# Altium footprint library Ceramic Capacitors 0402 6.3V.PcbLib: 2 footprints
Each footprint in its own frame and in the unit in brackets; x right, y up, seen from the top. Pads: shape width x height; smd on the part's side, far side on the other; paste and mask are expansions set on the pad; w line width, h text height; cw(c..) or ccw(c..) is an arc to the next point about the centre after c.
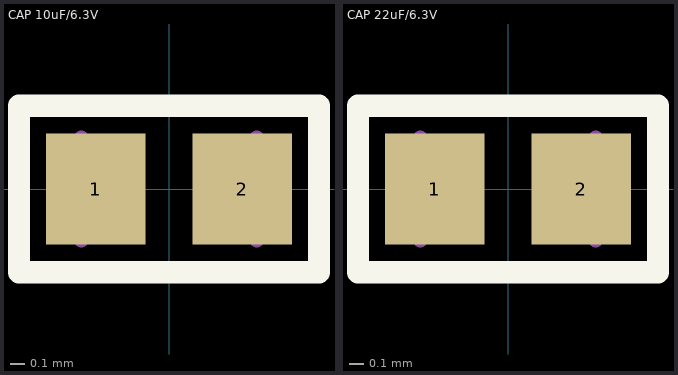
[diagram p0: the footprints below, top view; thin cyan lines are the x and y axes]

## CAP 10uF/6.3V [mm] "10µF ±20% 6.3V Ceramic Capacitor X5R 0402 (1005 Metric)"
height 0.63
pads (2):
  rect 0.68x0.76 smd: 1(-0.5,0) 2(0.5,0)
Top Overlay:
  lines w0.152: -1.026,-0.57 -1.026,0.57 1.026,0.57 1.026,-0.57 -1.026,-0.57
Mechanical 13:
  lines w0.1: -0.6,-0.35 -0.6,0.35 ; 0.6,-0.35 0.6,0.35
3D body "Capacitor SMD 0402.step": height 0.51, standoff 0.01, extent -0.5,-0.25 0.5,0.25

## CAP 22uF/6.3V [mm] "22µF ±20% 6.3V Ceramic Capacitor X5R 0402 (1005 Metric)"
height 0.63
pads (2):
  rect 0.68x0.76 smd: 1(-0.5,0) 2(0.5,0)
Top Overlay:
  lines w0.152: -1.026,-0.57 1.026,-0.57 1.026,0.57 -1.026,0.57 -1.026,-0.57
Mechanical 13:
  lines w0.1: -0.6,-0.35 -0.6,0.35 ; 0.6,-0.35 0.6,0.35
3D body "Capacitor SMD 0402.step": height 0.51, standoff 0.01, extent -0.5,-0.25 0.5,0.25